# Altium schematic symbol library sch_lib.SchLib: 23 symbols
Pins are listed as number, name and electrical type; pins without a type are passive.

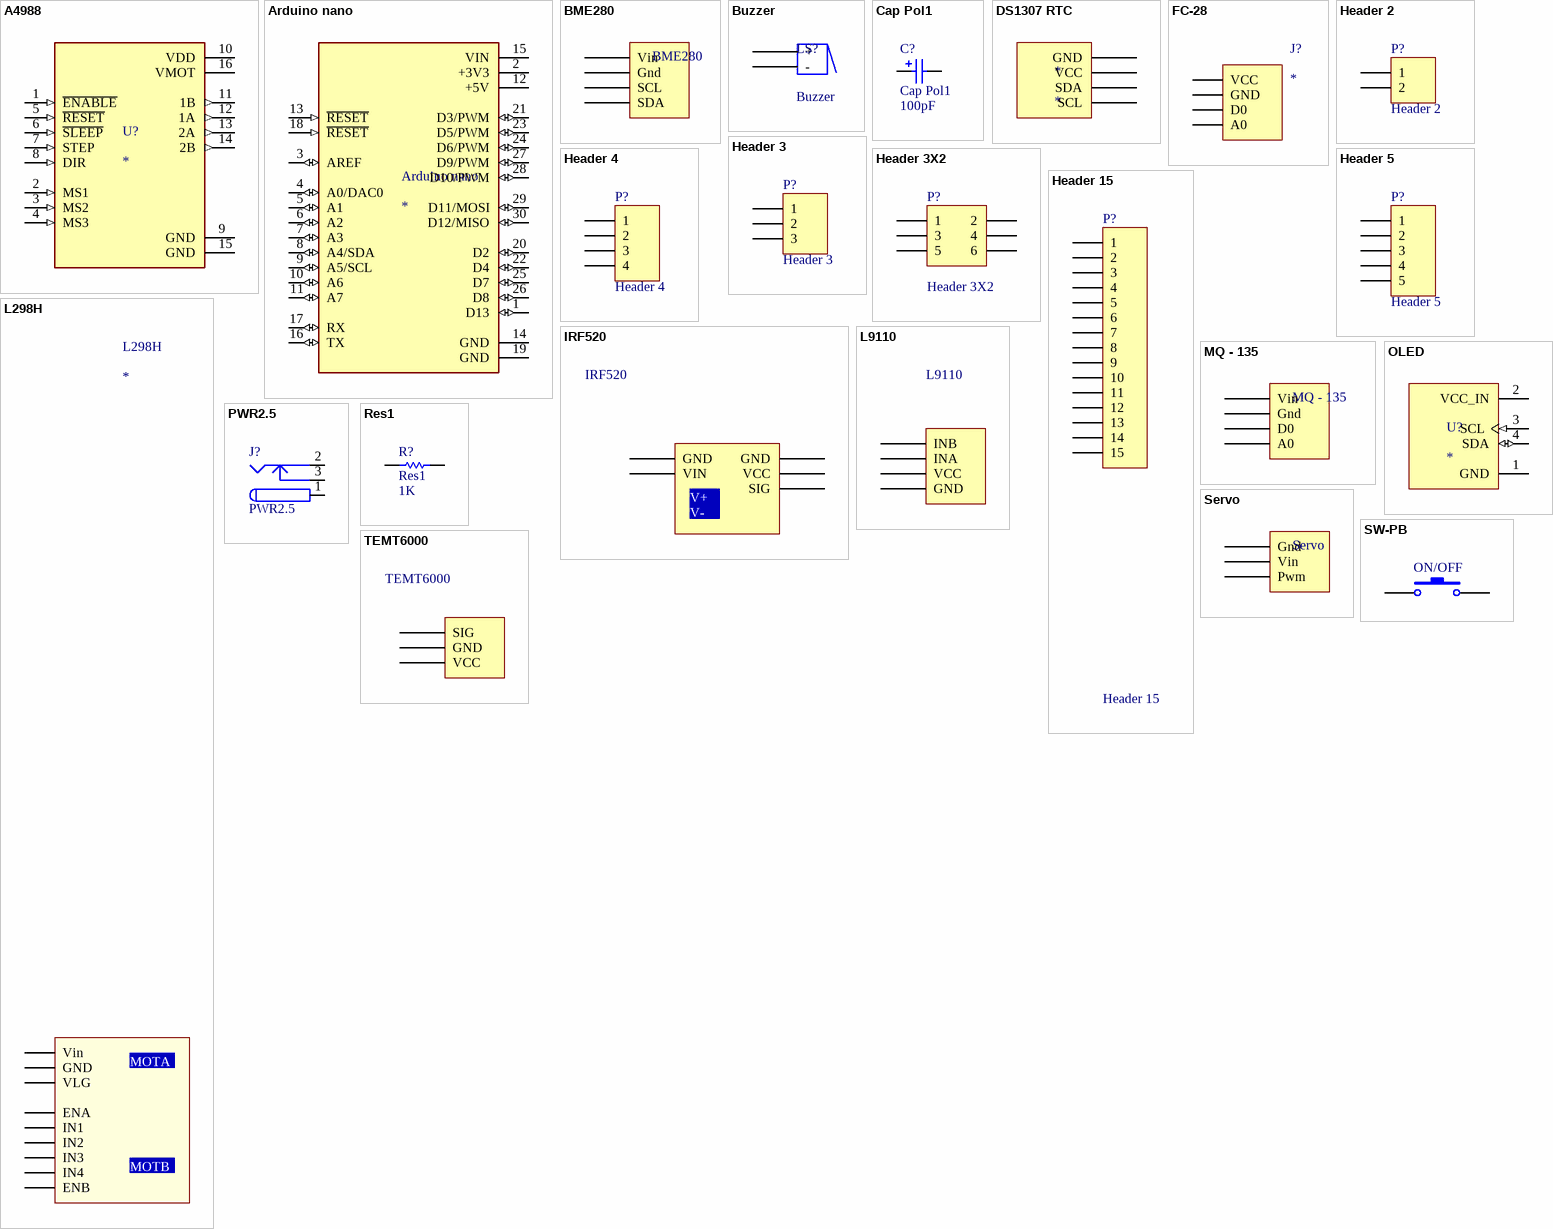
[diagram p0: symbols A4988 to TEMT6000]

## A4988
designator U?
Stepper motor controler; IC: A4988; 1A; Uin mot: 8Ã·35V; MP: A4988_STEPPER_MOTOR_DRIVER_CARRIER; Price: None; Value: *; Package: None; Availability: Unavailable
footprint A4988
pins: 1 ~{ENABLE} (in), 2 MS1 (in), 3 MS2 (in), 4 MS3 (in), 5 ~{RESET} (in), 6 ~{SLEEP} (in), 7 STEP (in), 8 DIR (in), 9 GND (power), 10 VDD (power), 11 1B (out), 12 1A (out), 13 2A (out), 14 2B (out), 15 GND (power), 16 VMOT (power)

## Arduino nano
designator Arduino nano
Arduino nano 5V; MP: Arduino Nano Every; Check_prices: https://www.snapeda.com/parts/Arduino%20Nano%20Every/Arduino/view-part/?ref=eda; Value: *; Availability: Not in stock; Price: None; Package: None; SnapEDA_Link: https://www.snapeda.com/parts/Arduino%20Nano%20Every/Arduino/view-part/?ref=snap; MF: Arduino
footprint arduino nano
pins: 1 D13 (io), 2 +3V3 (power), 3 AREF (io), 4 A0/DAC0 (io), 5 A1 (io), 6 A2 (io), 7 A3 (io), 8 A4/SDA (io), 9 A5/SCL (io), 10 A6 (io), 11 A7 (io), 12 +5V (power), 13 ~{RESET} (in), 14 GND (power), 15 VIN (power), 16 TX (io), 17 RX (io), 18 ~{RESET} (in), 19 GND (power), 20 D2 (io), 21 D3/PWM (io), 22 D4 (io), 23 D5/PWM (io), 24 D6/PWM (io), 25 D7 (io), 26 D8 (io), 27 D9/PWM (io), 28 D10/PWM (io), 29 D11/MOSI (io), 30 D12/MISO (io)

## BME280
designator BME280
footprint HDR1X4
pins: 1 Vin (power), 2 Gnd, 3 SCL, 4 SDA

## Buzzer
designator LS?
Magnetic Transducer Buzzer; Published: 24-Mar-1999; LatestRevisionDate: 17-Dec-2003; LatestRevisionNote: Schematic revised, PCB Footprint replaced.; DatasheetVersion: 17-Dec-2003; PackageReference: ABSM-1574; Publisher: Altium Limited; PackageDescription: Magnetic Transducer Buzzer; ComponentLink1Description: Manufacturer Link; ComponentLink1URL: http://www.megastar.com/linecard/buzzmode/index.php
footprint BUZZER
pins: N -, P +
1 alternate drawing of the same symbol

## Cap Pol1
designator C?  value 100pF
Polarized Capacitor (Radial); Published: 8-Jun-2000; LatestRevisionDate: 17-Jul-2002; LatestRevisionNote: Re-released for DXP Platform.; PackageReference: RB7.6-15; Publisher: Altium Limited; PackageDescription: Polarized Capacitor (Radial); 2 Leads
footprint ELCO-160 (Polarized Capacitor (Radial); 2 Leads)
pins: 1, 2
1 alternate drawing of the same symbol

## DS1307 RTC
designator *
footprint RTC
pins: 8 GND, 9 VCC, 10 SDA, 11 SCL

## FC-28
designator J?
Ð”Ð°Ñ‚Ñ‡Ð¸Ðº Ð’Ð»Ð°Ð´Ð½Ð¾ÑÑ‚Ð¸ Ð¿Ð¾Ñ‡Ð²Ñ‹ FC-28; Package: None; Price: None; Value: *; MP: FC-28; Availability: Unavailable
footprint FC-28
pins: 1 VCC (power), 2 GND (power), 3 D0 (power), 4 A0 (power)

## Header 2
designator P?
Header, 2-Pin; LatestRevisionDate: 17-Jul-2002; LatestRevisionNote: Re-released for DXP Platform.; Publisher: Altium Limited
footprint HDR1x2
pins: 1, 2

## Header 3
designator P?
Header, 3-Pin; LatestRevisionDate: 17-Jul-2002; LatestRevisionNote: Re-released for DXP Platform.; Publisher: Altium Limited
footprint HDR1x3
pins: 1, 2, 3

## Header 3X2
designator P?
Header, 3-Pin, Dual row; LatestRevisionDate: 17-Jul-2002; LatestRevisionNote: Re-released for DXP Platform.; Publisher: Altium Limited
footprint HDR2X3 (Connector; Header; 4x2 Position)
pins: 1, 2, 3, 4, 5, 6

## Header 4
designator P?
Header, 4-Pin; LatestRevisionDate: 17-Jul-2002; LatestRevisionNote: Re-released for DXP Platform.; Publisher: Altium Limited
footprint HDR1X4
pins: 1, 2, 3, 4

## Header 5
designator P?
Header, 5-Pin; LatestRevisionDate: 17-Jul-2002; LatestRevisionNote: Re-released for DXP Platform.; Publisher: Altium Limited
footprint HDR1X5
pins: 1, 2, 3, 4, 5

## Header 15
designator P?
Header, 15-Pin; LatestRevisionDate: 17-Jul-2002; LatestRevisionNote: Re-released for DXP Platform.; Publisher: Altium Limited
footprint HDR1X15
pins: 1, 2, 3, 4, 5, 6, 7, 8, 9, 10, 11, 12, 13, 14, 15

## IRF520
designator IRF520  (value not drawn)
footprint irf520
pins: 1 SIG, 2 VCC, 3 GND, 4 VIN, 5 GND
text: V+ / V-

## L298H
designator L298H
footprint L298N
pins: 1 ENA, 2 IN1, 3 IN2, 4 IN3, 5 IN4, 6 ENB, 7 VLG, 8 GND, 9 Vin
text: MOTA; MOTB

## L9110
designator L9110  (value not drawn)
footprint l9110
footprint HDR1X4
pins: 1 INB, 2 INA, 3 VCC, 4 GND

## MQ - 135
designator MQ - 135  (value not drawn)
footprint HDR1X4
pins: 1 Vin, 2 Gnd, 3 D0, 4 A0

## OLED
designator U?
0.96â€ 128 X 64 MONOCHROME GRAPHIC OLED DISPLAY MODULE - I2C; MP: DM-OLED096-636; SnapEDA_Link: https://www.snapeda.com/parts/DM-OLED096-636/Display+Module/view-part/?ref=snap; Package: Package; Value: *; MF: Display Module; Check_prices: https://www.snapeda.com/parts/DM-OLED096-636/Display+Module/view-part/?ref=eda
footprint OLED
pins: 1 GND (power), 2 VCC_IN (power), 3 SCL (in), 4 SDA (io)

## PWR2.5
designator J?
Low Voltage Power Supply Connector; Published: 17-Dec-2003; DatasheetDocument: 09-May-2002; Publisher: Altium Limited; ComponentLink1Description: Manufacturer Link; ComponentLink1URL: http://domino.kycon.com/internet/Products.html
footprint KLD-0202 (DC Power Jack, 2.5mm, KLD Series, PCB Mount)
pins: 1 (power), 1A (power), 1B (power), 2 (power), 2A (power), 2B (power), 3 (power), 3A (power), 3B (power)

## Res1
designator R?  value 1K
Resistor; Published: 8-Jun-2000; LatestRevisionDate: 17-Jul-2002; LatestRevisionNote: Re-released for DXP Platform.; PackageReference: AXIAL-0.3; Publisher: Altium Limited; PackageDescription: Axial Device, Thru-Hole; 2 Leads; 0.3 in Pin Spacing
footprint AXIAL-0.3 (Axial Device, Thru-Hole; 2 Leads; 0.3 in Pin Spacing)
pins: 1, 2

## Servo
designator Servo  (value not drawn)
footprint HDR1x3
pins: 1 Gnd "Braon", 2 Vin (power) "Crvena", 3 Pwm "Narandzasta"

## SW-PB
designator ON/OFF  (value not drawn)
Switch; Published: 24-Mar-1999; LatestRevisionDate: 17-Jul-2002; LatestRevisionNote: Re-released for DXP Platform.; PackageReference: SPST-2; Publisher: Altium Limited; PackageDescription: Switch; 2 Leads
footprint SW_B3F-1000
pins: 1, 2

## TEMT6000
designator TEMT6000  (value not drawn)
footprint temt6000
pins: 1 VCC, 2 GND, 3 SIG